# EAGLE library part RNETWORK_4 (library r2p_rcl)
4 Resistor Array 0603
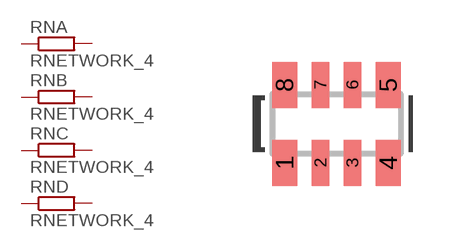
[diagram p0: symbol with the pads of RNET4_1206; footprint RNET4_1206]

Designator prefix RN; gates A=R B=R C=R D=R

## RNETWORK_4-1206  [RNET4_1206]
1  A:1  pas
2  B:1  pas
3  C:1  pas
4  D:1  pas
5  D:2  pas
6  C:2  pas
7  B:2  pas
8  A:2  pas

## Footprint RNET4_1206 (pad centres in mm)
smd 0.63 x 1.15: 1 -1.295,-0.975; 4 1.295,-0.975; 5 1.295,0.975; 8 -1.295,0.975
smd 0.44 x 1.15: 2 -0.4,-0.975; 3 0.4,-0.975; 6 0.4,0.975; 7 -0.4,0.975